# Altium footprint library MUSBR2M5C0X4BP.PcbLib: 1 footprints
Each footprint in its own frame and in the unit in brackets; x right, y up, seen from the top. Pads: shape width x height; smd on the part's side, far side on the other; paste and mask are expansions set on the pad; w line width, h text height; cw(c..) or ccw(c..) is an arc to the next point about the centre after c.

## MUSBR2M5C0X4BP [mm] "USB Connectors DUST COVER FOR TYPE C BLACK"
3D body: height 12.05, standoff -5.8, extent -8.625,-16.673 8.625,5.842